# Altium integrated library ON Semi Signal Management Operational Amplifiers.IntLib: 435 symbols (part 3 of 12)
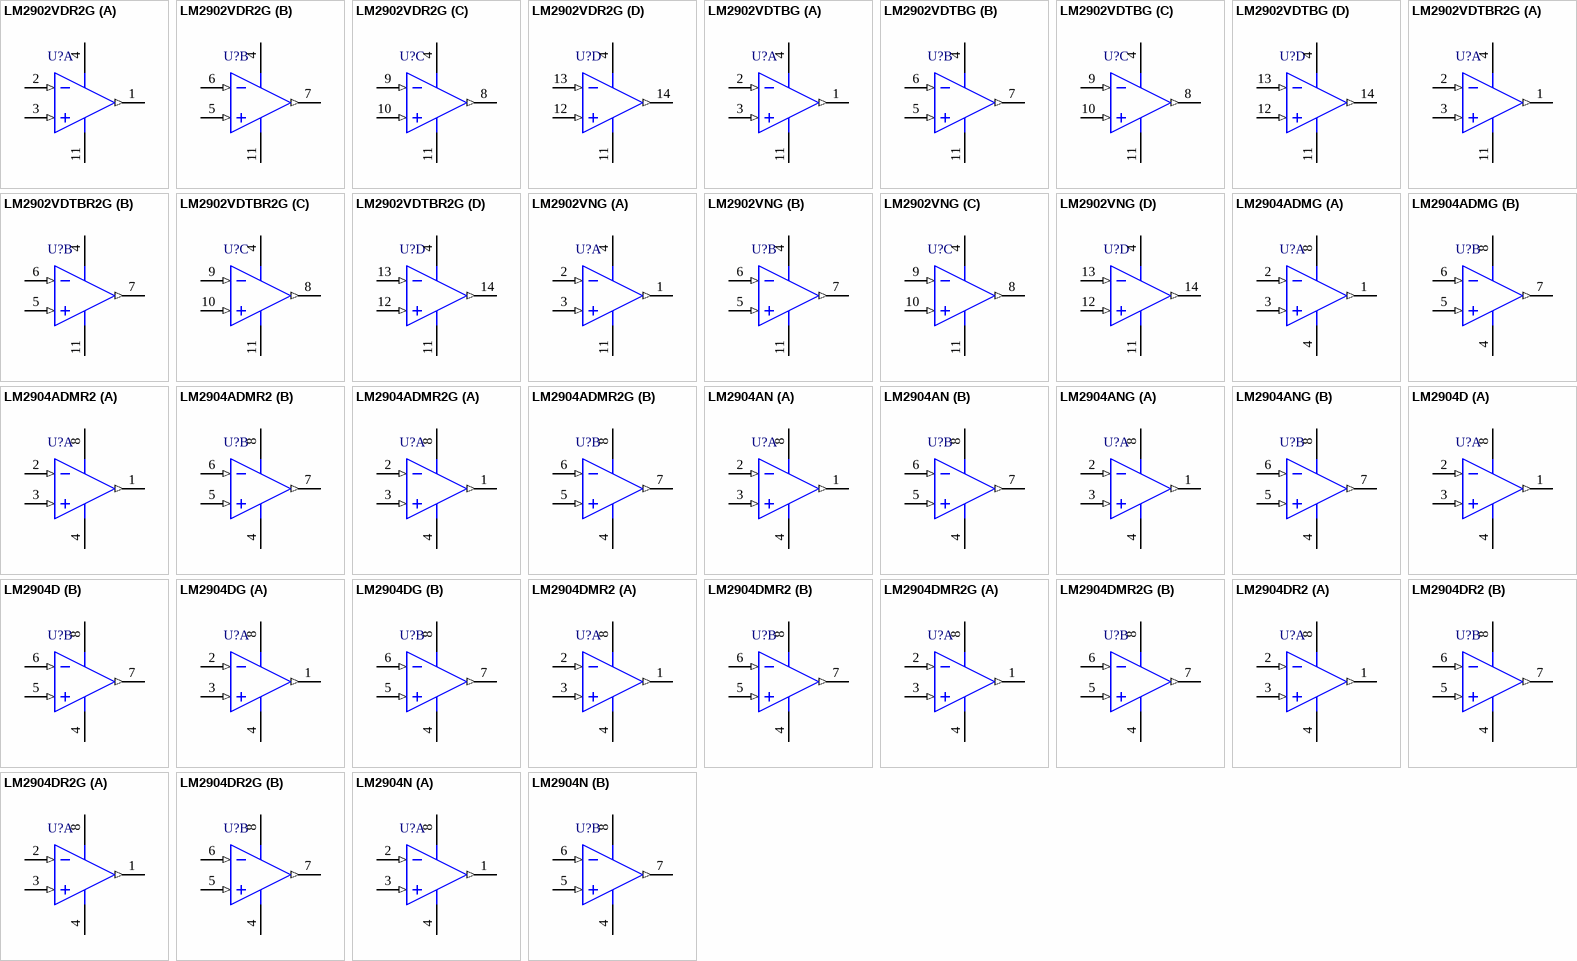
[diagram p27: symbols LM2902VDR2G to LM2904N]

## LM2904DR2G
designator U?
Single Supply Dual Operational Amplifier, 3 to 32 V, -40 to 105 degC, 8-Pin SOIC, Pb-Free, Tape and Reel; Manufacturer: On Semiconductor; PartNumber: LM2904DR2G; VCC Max (V): 32; VCC Min (V): 3; DatasheetVersion: Rev. 27; PackageVersion: Rev. AK, 02/2011; PackageReference: SOIC-8-751-07; PackageDescription: 8-Pin Small Outline Integrated Circuit, Body 4.9 x 3.9 mm, Pitch 1.27 mm; Supplier 1: Digi-Key; Supplier Part Number 1: LM2904DR2GOSTR-ND; Supplier 2: Digi-Key; Supplier Part Number 2: LM2904DR2GOSCT-ND; Supplier 3: Digi-Key; Supplier Part Number 3: LM2904DR2GOSDKR-ND; Supplier 4: Farnell; Supplier Part Number 4: 1278479; Supplier 5: Mouser; Supplier Part Number 5: 863-LM2904DR2G; Packing: Tape and Reel; RoHS: TRUE; Mounting Technology: Surface Mount; ComponentLink1Description: Manufacturer URL; ComponentLink1URL: http://www.onsemi.com/; ComponentLink2Description: Datasheet; ComponentLink2URL: http://www.onsemi.cn/pub_link/Collateral/LM358-D.PDF; ComponentLink3Description: Package Specification; ComponentLink3URL: http://www.onsemi.com/pub_link/Collateral/751-07.PDF
footprint ONSC-SOIC-8-751-07_V (SOIC, 8-Leads, Body 4.9x3.9mm, Pitch 1.27mm)
pins on every part: 4 VEE/GND (power), 8 VCC (power)
part A pins: 1 OUTA (out), 2 INA- (in), 3 INA+ (in)
part B pins: 5 INB+ (in), 6 INB- (in), 7 OUTB (out)

## LM2904N
designator U?
Single Supply Dual Operational Amplifier, 3 to 32 V, -40 to 105 degC, 8-Pin PDIP, Tube; Manufacturer: On Semiconductor; PartNumber: LM2904N; VCC Max (V): 32; VCC Min (V): 3; DatasheetVersion: Rev. 27; PackageVersion: Rev. M, 04/2010; PackageReference: PDIP-8-626-05; PackageDescription: 8-Pin Plastic Dual-In Line Package, Body 9.52 x 6.605 mm, Pitch 2.54 mm; Packing: Tube; RoHS: FALSE; Mounting Technology: Through Hole; ComponentLink1Description: Manufacturer URL; ComponentLink1URL: http://www.onsemi.com/; ComponentLink2Description: Datasheet; ComponentLink2URL: http://www.onsemi.cn/pub_link/Collateral/LM358-D.PDF; ComponentLink3Description: Package Specification; ComponentLink3URL: http://www.onsemi.com/pub_link/Collateral/LM211-D.PDF
footprint ONSC-PDIP-8-626-05_M (DIP, 8-Leads, Body 10x7.1mm, Pitch 2.54mm)
pins on every part: 4 VEE/GND (power), 8 VCC (power)
part A pins: 1 OUTA (out), 2 INA- (in), 3 INA+ (in)
part B pins: 5 INB+ (in), 6 INB- (in), 7 OUTB (out)

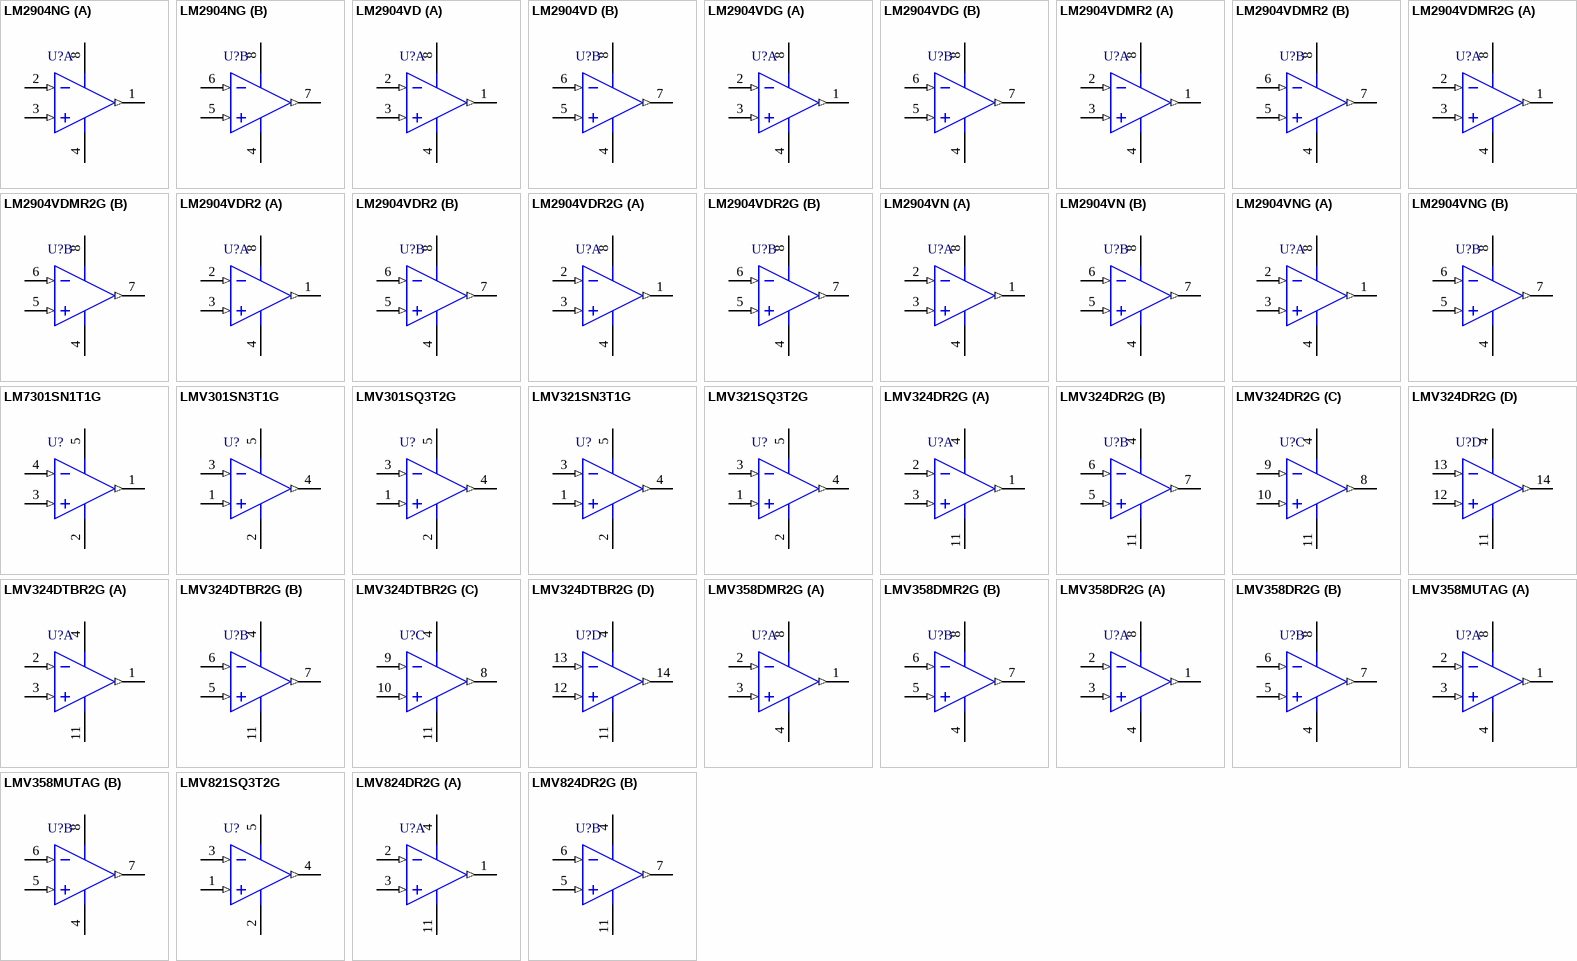
[diagram p5: symbols LM2904NG to LMV824DR2G]

## LM2904NG
designator U?
Single Supply Dual Operational Amplifier, 3 to 32 V, -40 to 105 degC, 8-Pin PDIP, Pb-Free, Tube; Manufacturer: On Semiconductor; PartNumber: LM2904NG; VCC Max (V): 32; VCC Min (V): 3; DatasheetVersion: Rev. 27; PackageVersion: Rev. M, 04/2010; PackageReference: PDIP-8-626-05; PackageDescription: 8-Pin Plastic Dual-In Line Package, Body 9.52 x 6.605 mm, Pitch 2.54 mm; Supplier 1: Digi-Key; Supplier Part Number 1: LM2904NGOS-ND; Supplier 2: Farnell; Supplier Part Number 2: 1211131; Supplier 3: Newark; Supplier Part Number 3: 45J0729; Supplier 4: Mouser; Supplier Part Number 4: 863-LM2904NG; Packing: Tube; RoHS: TRUE; Mounting Technology: Through Hole; ComponentLink1Description: Manufacturer URL; ComponentLink1URL: http://www.onsemi.com/; ComponentLink2Description: Datasheet; ComponentLink2URL: http://www.onsemi.cn/pub_link/Collateral/LM358-D.PDF; ComponentLink3Description: Package Specification; ComponentLink3URL: http://www.onsemi.com/pub_link/Collateral/LM211-D.PDF
footprint ONSC-PDIP-8-626-05_M (DIP, 8-Leads, Body 10x7.1mm, Pitch 2.54mm)
pins on every part: 4 VEE/GND (power), 8 VCC (power)
part A pins: 1 OUTA (out), 2 INA- (in), 3 INA+ (in)
part B pins: 5 INB+ (in), 6 INB- (in), 7 OUTB (out)

## LM2904VD
designator U?
Single Supply Dual Operational Amplifier, 3 to 32 V, -40 to 125 degC, 8-Pin SOIC, Tube; Manufacturer: On Semiconductor; PartNumber: LM2904VD; VCC Max (V): 32; VCC Min (V): 3; DatasheetVersion: Rev. 27; PackageVersion: Rev. AK, 02/2011; PackageReference: SOIC-8-751-07; PackageDescription: 8-Pin Small Outline Integrated Circuit, Body 4.9 x 3.9 mm, Pitch 1.27 mm; Packing: Tube; RoHS: FALSE; Mounting Technology: Surface Mount; ComponentLink1Description: Manufacturer URL; ComponentLink1URL: http://www.onsemi.com/; ComponentLink2Description: Datasheet; ComponentLink2URL: http://www.onsemi.cn/pub_link/Collateral/LM358-D.PDF; ComponentLink3Description: Package Specification; ComponentLink3URL: http://www.onsemi.com/pub_link/Collateral/751-07.PDF
footprint ONSC-SOIC-8-751-07_V (SOIC, 8-Leads, Body 4.9x3.9mm, Pitch 1.27mm)
pins on every part: 4 VEE/GND (power), 8 VCC (power)
part A pins: 1 OUTA (out), 2 INA- (in), 3 INA+ (in)
part B pins: 5 INB+ (in), 6 INB- (in), 7 OUTB (out)

## LM2904VDG
designator U?
Single Supply Dual Operational Amplifier, 3 to 32 V, -40 to 125 degC, 8-Pin SOIC, Pb-Free, Tube; Manufacturer: On Semiconductor; PartNumber: LM2904VDG; VCC Max (V): 32; VCC Min (V): 3; DatasheetVersion: Rev. 27; PackageVersion: Rev. AK, 02/2011; PackageReference: SOIC-8-751-07; PackageDescription: 8-Pin Small Outline Integrated Circuit, Body 4.9 x 3.9 mm, Pitch 1.27 mm; Supplier 1: Digi-Key; Supplier Part Number 1: LM2904VDGOS-ND; Supplier 2: Farnell; Supplier Part Number 2: 2072393RL; Supplier 3: Farnell; Supplier Part Number 3: 2072393; Supplier 4: Newark; Supplier Part Number 4: 98H0568; Supplier 5: Mouser; Supplier Part Number 5: 863-LM2904VDG; Packing: Tube; RoHS: TRUE; Mounting Technology: Surface Mount; ComponentLink1Description: Manufacturer URL; ComponentLink1URL: http://www.onsemi.com/; ComponentLink2Description: Datasheet; ComponentLink2URL: http://www.onsemi.cn/pub_link/Collateral/LM358-D.PDF; ComponentLink3Description: Package Specification; ComponentLink3URL: http://www.onsemi.com/pub_link/Collateral/751-07.PDF
footprint ONSC-SOIC-8-751-07_V (SOIC, 8-Leads, Body 4.9x3.9mm, Pitch 1.27mm)
pins on every part: 4 VEE/GND (power), 8 VCC (power)
part A pins: 1 OUTA (out), 2 INA- (in), 3 INA+ (in)
part B pins: 5 INB+ (in), 6 INB- (in), 7 OUTB (out)

## LM2904VDMR2
designator U?
Single Supply Dual Operational Amplifier, 3 to 32 V, -40 to 125 degC, 8-Pin MICRO, Tape and Reel; Manufacturer: On Semiconductor; PartNumber: LM2904VDMR2; VCC Max (V): 32; VCC Min (V): 3; DatasheetVersion: Rev. 27; PackageVersion: Rev. H; PackageReference: MICRO-8-846A-02_H; PackageDescription: 8-Pin Small Outline Package, Body 3 x 3 mm, Pitch 0.65 mm; Supplier 1: Digi-Key; Supplier Part Number 1: LM2904VDMR2OS-ND; Packing: Tape and Reel; RoHS: FALSE; Mounting Technology: Surface Mount; ComponentLink1Description: Manufacturer URL; ComponentLink1URL: http://www.onsemi.com/; ComponentLink2Description: Datasheet; ComponentLink2URL: http://www.onsemi.cn/pub_link/Collateral/LM358-D.PDF; ComponentLink3Description: Package Specification; ComponentLink3URL: http://www.onsemi.com/pub_link/Collateral/NLSV2T244-D.PDF
footprint ONSC-MICRO-8-846A-02_H_V (SOIC, 8-Leads, Body 3.1x3.1mm, Pitch 0.65mm)
pins on every part: 4 VEE/GND (power), 8 VCC (power)
part A pins: 1 OUTA (out), 2 INA- (in), 3 INA+ (in)
part B pins: 5 INB+ (in), 6 INB- (in), 7 OUTB (out)

## LM2904VDMR2G
designator U?
Single Supply Dual Operational Amplifier, 3 to 32 V, -40 to 125 degC, 8-Pin MICRO, Pb-Free, Tape and Reel; Manufacturer: On Semiconductor; PartNumber: LM2904VDMR2G; VCC Max (V): 32; VCC Min (V): 3; DatasheetVersion: Rev. 27; PackageVersion: Rev. H; PackageReference: MICRO-8-846A-02_H; PackageDescription: 8-Pin Small Outline Package, Body 3 x 3 mm, Pitch 0.65 mm; Supplier 1: Digi-Key; Supplier Part Number 1: LM2904VDMR2GOSTR-ND; Supplier 2: Digi-Key; Supplier Part Number 2: LM2904VDMR2GOSCT-ND; Supplier 3: Mouser; Supplier Part Number 3: 863-LM2904VDMR2G; Packing: Tape and Reel; RoHS: TRUE; Mounting Technology: Surface Mount; ComponentLink1Description: Manufacturer URL; ComponentLink1URL: http://www.onsemi.com/; ComponentLink2Description: Datasheet; ComponentLink2URL: http://www.onsemi.cn/pub_link/Collateral/LM358-D.PDF; ComponentLink3Description: Package Specification; ComponentLink3URL: http://www.onsemi.com/pub_link/Collateral/NLSV2T244-D.PDF
footprint ONSC-MICRO-8-846A-02_H_V (SOIC, 8-Leads, Body 3.1x3.1mm, Pitch 0.65mm)
pins on every part: 4 VEE/GND (power), 8 VCC (power)
part A pins: 1 OUTA (out), 2 INA- (in), 3 INA+ (in)
part B pins: 5 INB+ (in), 6 INB- (in), 7 OUTB (out)

## LM2904VDR2
designator U?
Single Supply Dual Operational Amplifier, 3 to 32 V, -40 to 125 degC, 8-Pin SOIC, Tape and Reel; Manufacturer: On Semiconductor; PartNumber: LM2904VDR2; VCC Max (V): 32; VCC Min (V): 3; DatasheetVersion: Rev. 27; PackageVersion: Rev. AK, 02/2011; PackageReference: SOIC-8-751-07; PackageDescription: 8-Pin Small Outline Integrated Circuit, Body 4.9 x 3.9 mm, Pitch 1.27 mm; Packing: Tape and Reel; RoHS: FALSE; Mounting Technology: Surface Mount; ComponentLink1Description: Manufacturer URL; ComponentLink1URL: http://www.onsemi.com/; ComponentLink2Description: Datasheet; ComponentLink2URL: http://www.onsemi.cn/pub_link/Collateral/LM358-D.PDF; ComponentLink3Description: Package Specification; ComponentLink3URL: http://www.onsemi.com/pub_link/Collateral/751-07.PDF
footprint ONSC-SOIC-8-751-07_V (SOIC, 8-Leads, Body 4.9x3.9mm, Pitch 1.27mm)
pins on every part: 4 VEE/GND (power), 8 VCC (power)
part A pins: 1 OUTA (out), 2 INA- (in), 3 INA+ (in)
part B pins: 5 INB+ (in), 6 INB- (in), 7 OUTB (out)

## LM2904VDR2G
designator U?
Single Supply Dual Operational Amplifier, 3 to 32 V, -40 to 125 degC, 8-Pin SOIC, Pb-Free, Tape and Reel; Manufacturer: On Semiconductor; PartNumber: LM2904VDR2G; VCC Max (V): 32; VCC Min (V): 3; DatasheetVersion: Rev. 27; PackageVersion: Rev. AK, 02/2011; PackageReference: SOIC-8-751-07; PackageDescription: 8-Pin Small Outline Integrated Circuit, Body 4.9 x 3.9 mm, Pitch 1.27 mm; Supplier 1: Digi-Key; Supplier Part Number 1: LM2904VDR2GOSTR-ND; Supplier 2: Digi-Key; Supplier Part Number 2: LM2904VDR2GOSCT-ND; Supplier 3: Digi-Key; Supplier Part Number 3: LM2904VDR2GOSDKR-ND; Supplier 4: Mouser; Supplier Part Number 4: 863-LM2904VDR2G; Packing: Tape and Reel; RoHS: TRUE; Mounting Technology: Surface Mount; ComponentLink1Description: Manufacturer URL; ComponentLink1URL: http://www.onsemi.com/; ComponentLink2Description: Datasheet; ComponentLink2URL: http://www.onsemi.cn/pub_link/Collateral/LM358-D.PDF; ComponentLink3Description: Package Specification; ComponentLink3URL: http://www.onsemi.com/pub_link/Collateral/751-07.PDF
footprint ONSC-SOIC-8-751-07_V (SOIC, 8-Leads, Body 4.9x3.9mm, Pitch 1.27mm)
pins on every part: 4 VEE/GND (power), 8 VCC (power)
part A pins: 1 OUTA (out), 2 INA- (in), 3 INA+ (in)
part B pins: 5 INB+ (in), 6 INB- (in), 7 OUTB (out)

## LM2904VN
designator U?
Single Supply Dual Operational Amplifier, 3 to 32 V, -40 to 125 degC, 8-Pin PDIP, Tube; Manufacturer: On Semiconductor; PartNumber: LM2904VN; VCC Max (V): 32; VCC Min (V): 3; DatasheetVersion: Rev. 27; PackageVersion: Rev. M, 04/2010; PackageReference: PDIP-8-626-05; PackageDescription: 8-Pin Plastic Dual-In Line Package, Body 9.52 x 6.605 mm, Pitch 2.54 mm; Packing: Tube; RoHS: FALSE; Mounting Technology: Through Hole; ComponentLink1Description: Manufacturer URL; ComponentLink1URL: http://www.onsemi.com/; ComponentLink2Description: Datasheet; ComponentLink2URL: http://www.onsemi.cn/pub_link/Collateral/LM358-D.PDF; ComponentLink3Description: Package Specification; ComponentLink3URL: http://www.onsemi.com/pub_link/Collateral/LM211-D.PDF
footprint ONSC-PDIP-8-626-05_M (DIP, 8-Leads, Body 10x7.1mm, Pitch 2.54mm)
pins on every part: 4 VEE/GND (power), 8 VCC (power)
part A pins: 1 OUTA (out), 2 INA- (in), 3 INA+ (in)
part B pins: 5 INB+ (in), 6 INB- (in), 7 OUTB (out)

## LM2904VNG
designator U?
Single Supply Dual Operational Amplifier, 3 to 32 V, -40 to 125 degC, 8-Pin PDIP, Pb-Free, Tube; Manufacturer: On Semiconductor; PartNumber: LM2904VNG; VCC Max (V): 32; VCC Min (V): 3; DatasheetVersion: Rev. 27; PackageVersion: Rev. M, 04/2010; PackageReference: PDIP-8-626-05; PackageDescription: 8-Pin Plastic Dual-In Line Package, Body 9.52 x 6.605 mm, Pitch 2.54 mm; Supplier 1: Digi-Key; Supplier Part Number 1: LM2904VNGOS-ND; Supplier 2: Mouser; Supplier Part Number 2: 863-LM2904VNG; Packing: Tube; RoHS: TRUE; Mounting Technology: Through Hole; ComponentLink1Description: Manufacturer URL; ComponentLink1URL: http://www.onsemi.com/; ComponentLink2Description: Datasheet; ComponentLink2URL: http://www.onsemi.cn/pub_link/Collateral/LM358-D.PDF; ComponentLink3Description: Package Specification; ComponentLink3URL: http://www.onsemi.com/pub_link/Collateral/LM211-D.PDF
footprint ONSC-PDIP-8-626-05_M (DIP, 8-Leads, Body 10x7.1mm, Pitch 2.54mm)
pins on every part: 4 VEE/GND (power), 8 VCC (power)
part A pins: 1 OUTA (out), 2 INA- (in), 3 INA+ (in)
part B pins: 5 INB+ (in), 6 INB- (in), 7 OUTB (out)

## LM7301SN1T1G
designator U?
Low Power, 4 MHz GBW, Rail-to-Rail Input-Output Operational Amplifier, 1.8 to 32 V, -40 to 85 degC, 5-Pin TSOP, Pb-Free, Tape and Reel; Manufacturer: On Semiconductor; PartNumber: LM7301SN1T1G; GBW Typ (MHz): 4; SR Typ (V/uS): 1.25; VCC Max (V): 32; VCC Min (V): 1.8; DatasheetVersion: Rev. 4; PackageVersion: Rev. K, 04/2013; PackageReference: TSOP-5-483-02; PackageDescription: 5-Pin Small Outline Package, Body 3 x 1.5 mm, Pitch 0.95 mm; Packing: Tape and Reel; RoHS: TRUE; Mounting Technology: Surface Mount; ComponentLink1Description: Manufacturer URL; ComponentLink1URL: http://www.onsemi.com/; ComponentLink2Description: Datasheet; ComponentLink2URL: http://www.onsemi.cn/pub_link/Collateral/LM7301-D.PDF; ComponentLink3Description: Package Specification; ComponentLink3URL: http://www.onsemi.com/pub_link/Collateral/483.PDF
footprint ONSC-TSOP-5-483-02_V (SOP, 5-Leads, Body 3x1.5mm, Pitch 0.95mm)
pins: 1 OUT (out), 2 VEE (power), 3 IN+ (in), 4 IN- (in), 5 VCC (power)

## LMV301SN3T1G
designator U?
Low Bias Current, Rail-to-Rail Operational Amplifier, 1.8 to 5 V, -40 to 85 degC, 5-Pin TSOP, Pb-Free, Tape and Reel; Manufacturer: On Semiconductor; PartNumber: LMV301SN3T1G; GBW Typ (MHz): 1; VCC Max (V): 5; VCC Min (V): 1.8; DatasheetVersion: Rev. 2; PackageVersion: Rev. K, 04/2013; PackageReference: TSOP-5-483-02; PackageDescription: 5-Pin Small Outline Package, Body 3 x 1.5 mm, Pitch 0.95 mm; Supplier 1: Newark; Supplier Part Number 1: 68X4006; Packing: Tape and Reel; RoHS: TRUE; SR Typ (V/uS): 1; Mounting Technology: Surface Mount; ComponentLink1Description: Manufacturer URL; ComponentLink1URL: http://www.onsemi.com/; ComponentLink2Description: Datasheet; ComponentLink2URL: http://www.onsemi.cn/pub_link/Collateral/LMV301-D.PDF; ComponentLink3Description: Package Specification; ComponentLink3URL: http://www.onsemi.com/pub_link/Collateral/483.PDF
footprint ONSC-TSOP-5-483-02_V (SOP, 5-Leads, Body 3x1.5mm, Pitch 0.95mm)
pins: 1 IN+ (in), 2 VEE (power), 3 IN- (in), 4 OUT (out), 5 VCC (power)

## LMV301SQ3T2G
designator U?
Low Bias Current, Rail-to-Rail Operational Amplifier, 1.8 to 5 V, -40 to 85 degC, 5-Pin SC70, Pb-Free, Tape and Reel; Manufacturer: On Semiconductor; PartNumber: LMV301SQ3T2G; GBW Typ (MHz): 1; VCC Max (V): 5; VCC Min (V): 1.8; DatasheetVersion: Rev. 2; PackageVersion: Rev. L, 01/2013; PackageReference: SC70-5-419A-02; PackageDescription: 5-Pin Small Outline Transistor, Body 2 x 1.25 mm, Pitch 0.65 mm; Supplier 1: Digi-Key; Supplier Part Number 1: LMV301SQ3T2G-ND; Supplier 2: Mouser; Supplier Part Number 2: 863-LMV301SQ3T2G; Packing: Tape and Reel; RoHS: TRUE; SR Typ (V/uS): 1; Mounting Technology: Surface Mount; ComponentLink1Description: Manufacturer URL; ComponentLink1URL: http://www.onsemi.com/; ComponentLink2Description: Datasheet; ComponentLink2URL: http://www.onsemi.cn/pub_link/Collateral/LMV301-D.PDF; ComponentLink3Description: Package Specification; ComponentLink3URL: http://www.onsemi.cn/pub_link/Collateral/419A-02.PDF
footprint ONSC-SC70-5-419A-02_V (SOT23, 5-Leads, Body 2x1.25mm, Pitch 0.65mm)
pins: 1 IN+ (in), 2 VEE (power), 3 IN- (in), 4 OUT (out), 5 VCC (power)

## LMV321SN3T1G
designator U?
Single Low-Voltage, Rail-to-Rail Operational Amplifier, 2.7 to 5.5 V, -40 to 85 degC, 5-Pin TSOP, Pb-Free, Tape and Reel; Manufacturer: On Semiconductor; PartNumber: LMV321SN3T1G; GBW Typ (MHz): 1; VCC Max (V): 5.5; VCC Min (V): 2.7; DatasheetVersion: Rev. 10; PackageVersion: Rev. K, 04/2013; PackageReference: TSOP-5-483-02; PackageDescription: 5-Pin Small Outline Package, Body 3 x 1.5 mm, Pitch 0.95 mm; Supplier 1: Digi-Key; Supplier Part Number 1: LMV321SN3T1GOSTR-ND; Supplier 2: Digi-Key; Supplier Part Number 2: LMV321SN3T1GOSCT-ND; Supplier 3: Digi-Key; Supplier Part Number 3: LMV321SN3T1GOSDKR-ND; Supplier 4: Newark; Supplier Part Number 4: 15R4263; Supplier 5: Mouser; Supplier Part Number 5: 863-LMV321SN3T1G; Packing: Tape and Reel; RoHS: TRUE; SR Typ (V/uS): 1; Mounting Technology: Surface Mount; ComponentLink1Description: Manufacturer URL; ComponentLink1URL: http://www.onsemi.com/; ComponentLink2Description: Datasheet; ComponentLink2URL: http://www.onsemi.cn/pub_link/Collateral/LMV321-LMV358-LMV324-D.PDF; ComponentLink3Description: Package Specification; ComponentLink3URL: http://www.onsemi.com/pub_link/Collateral/483.PDF
footprint ONSC-TSOP-5-483-02_V (SOP, 5-Leads, Body 3x1.5mm, Pitch 0.95mm)
pins: 1 IN+ (in), 2 V- (power), 3 IN- (in), 4 OUT (out), 5 V+ (power)

## LMV321SQ3T2G
designator U?
Single Low-Voltage, Rail-to-Rail Operational Amplifier, 2.7 to 5.5 V, -40 to 85 degC, 5-Pin SC70, Pb-Free, Tape and Reel; Manufacturer: On Semiconductor; PartNumber: LMV321SQ3T2G; GBW Typ (MHz): 1; VCC Max (V): 5.5; VCC Min (V): 2.7; DatasheetVersion: Rev. 10; PackageVersion: Rev. K, 07/2010; PackageReference: SC70-5-419A-02_K; PackageDescription: 5-Pin Small Outline Transistor, Body 2 x 1.25 mm, Pitch 0.65 mm; Supplier 1: Digi-Key; Supplier Part Number 1: LMV321SQ3T2GOSTR-ND; Supplier 2: Digi-Key; Supplier Part Number 2: LMV321SQ3T2GOSCT-ND; Supplier 3: Digi-Key; Supplier Part Number 3: LMV321SQ3T2GOSDKR-ND; Supplier 4: Newark; Supplier Part Number 4: 13P4651; Supplier 5: Mouser; Supplier Part Number 5: 863-LMV321SQ3T2G; Packing: Tape and Reel; RoHS: TRUE; SR Typ (V/uS): 1; Mounting Technology: Surface Mount; ComponentLink1Description: Manufacturer URL; ComponentLink1URL: http://www.onsemi.com/; ComponentLink2Description: Datasheet; ComponentLink2URL: http://www.onsemi.cn/pub_link/Collateral/LMV321-LMV358-LMV324-D.PDF; ComponentLink3Description: Package Specification; ComponentLink3URL: http://www.onsemi.cn/pub_link/Collateral/LMV821-D.PDF
footprint ONSC-SC70-5-419A-02_K_N (SOT23, 5-Leads, Body 2.2x1.35mm, Pitch 0.65mm, IPC Medium Density)
footprint ONSC-SC70-5-419A-02_K_L (SOT23, 5-Leads, Body 2.2x1.35mm, Pitch 0.65mm, IPC High Density)
footprint ONSC-SC70-5-419A-02_K_M (SOT23, 5-Leads, Body 2.2x1.35mm, Pitch 0.65mm, IPC Low Density)
pins: 1 IN+ (in), 2 V- (power), 3 IN- (in), 4 OUT (out), 5 V+ (power)

## LMV324DR2G
designator U?
Quad Low-Voltage, Rail-to-Rail Operational Amplifier, 2.7 to 5.5 V, -40 to 85 degC, 14-Pin SOIC, Pb-Free, Tape and Reel; Manufacturer: On Semiconductor; PartNumber: LMV324DR2G; GBW Typ (MHz): 1; VCC Max (V): 5.5; VCC Min (V): 2.7; DatasheetVersion: Rev. 10; PackageVersion: Rev. H; PackageReference: SOIC-14-751A-03_H; PackageDescription: 14-Pin Small Outline Integrated Circuit, Body 8.65 x 3.9 mm, Pitch 1.27 mm; Supplier 1: Digi-Key; Supplier Part Number 1: LMV324DR2GOSTR-ND; Supplier 2: Digi-Key; Supplier Part Number 2: LMV324DR2GOSCT-ND; Supplier 3: Digi-Key; Supplier Part Number 3: LMV324DR2GOSDKR-ND; Supplier 4: Newark; Supplier Part Number 4: 01P4986; Supplier 5: Mouser; Supplier Part Number 5: 863-LMV324DR2G; Packing: Tape and Reel; RoHS: TRUE; SR Typ (V/uS): 1; Mounting Technology: Surface Mount; ComponentLink1Description: Manufacturer URL; ComponentLink1URL: http://www.onsemi.com/; ComponentLink2Description: Datasheet; ComponentLink2URL: http://www.onsemi.cn/pub_link/Collateral/LMV321-LMV358-LMV324-D.PDF; ComponentLink3Description: Package Specification; ComponentLink3URL: http://www.onsemi.com/pub_link/Collateral/MC74AC74-D.PDF
footprint ONSC-SOIC-14-751A-03_H_V (SOIC, 14-Leads, Body 8.75x4mm, Pitch 1.27mm)
pins on every part: 4 V+ (power), 11 V- (power)
part A pins: 1 OUTA (out), 2 INA- (in), 3 INA+ (in)
part B pins: 5 INB+ (in), 6 INB- (in), 7 OUTB (out)
part C pins: 8 OUTC (out), 9 INC- (in), 10 INC+ (in)
part D pins: 12 IND+ (in), 13 IND- (in), 14 OUTD (out)

## LMV324DTBR2G
designator U?
Quad Low-Voltage, Rail-to-Rail Operational Amplifier, 2.7 to 5.5 V, -40 to 85 degC, 14-Pin TSSOP, Pb-Free, Tape and Reel; Manufacturer: On Semiconductor; PartNumber: LMV324DTBR2G; GBW Typ (MHz): 1; VCC Max (V): 5.5; VCC Min (V): 2.7; DatasheetVersion: Rev. 10; PackageVersion: Rev. B, 10/2006; PackageReference: TSSOP-14-948G-01; PackageDescription: 14-Pin Small Outline Package, Body 5 x 4.4 mm, Pitch 0.65 mm; Supplier 1: Digi-Key; Supplier Part Number 1: LMV324DTBR2G-ND; Supplier 2: Newark; Supplier Part Number 2: 01P4987; Supplier 3: Mouser; Supplier Part Number 3: 863-LMV324DTBR2G; Packing: Tape and Reel; RoHS: TRUE; SR Typ (V/uS): 1; Mounting Technology: Surface Mount; ComponentLink1Description: Manufacturer URL; ComponentLink1URL: http://www.onsemi.com/; ComponentLink2Description: Datasheet; ComponentLink2URL: http://www.onsemi.cn/pub_link/Collateral/LMV321-LMV358-LMV324-D.PDF; ComponentLink3Description: Package Specification; ComponentLink3URL: http://www.onsemi.com/pub_link/Collateral/948G-01.PDF
footprint ONSC-TSSOP-14-948G-01_V (SOP, 14-Leads, Body 5.1x4.5mm, Pitch 0.65mm)
pins on every part: 4 V+ (power), 11 V- (power)
part A pins: 1 OUTA (out), 2 INA- (in), 3 INA+ (in)
part B pins: 5 INB+ (in), 6 INB- (in), 7 OUTB (out)
part C pins: 8 OUTC (out), 9 INC- (in), 10 INC+ (in)
part D pins: 12 IND+ (in), 13 IND- (in), 14 OUTD (out)

## LMV358DMR2G
designator U?
Dual Low-Voltage, Rail-to-Rail Operational Amplifier, 2.7 to 5.5 V, -40 to 85 degC, 8-Pin MICRO, Pb-Free, Tape and Reel; Manufacturer: On Semiconductor; PartNumber: LMV358DMR2G; GBW Typ (MHz): 1; VCC Max (V): 5.5; VCC Min (V): 2.7; DatasheetVersion: Rev. 10; PackageVersion: Rev. H; PackageReference: MICRO-8-846A-02_H; PackageDescription: 8-Pin Small Outline Package, Body 3 x 3 mm, Pitch 0.65 mm; Supplier 1: Digi-Key; Supplier Part Number 1: LMV358DMR2G-ND; Supplier 2: Mouser; Supplier Part Number 2: 863-LMV358DMR2G; Packing: Tape and Reel; RoHS: TRUE; SR Typ (V/uS): 1; Mounting Technology: Surface Mount; ComponentLink1Description: Manufacturer URL; ComponentLink1URL: http://www.onsemi.com/; ComponentLink2Description: Datasheet; ComponentLink2URL: http://www.onsemi.cn/pub_link/Collateral/LMV321-LMV358-LMV324-D.PDF; ComponentLink3Description: Package Specification; ComponentLink3URL: http://www.onsemi.com/pub_link/Collateral/NLSV2T244-D.PDF
footprint ONSC-MICRO-8-846A-02_H_V (SOIC, 8-Leads, Body 3.1x3.1mm, Pitch 0.65mm)
pins on every part: 4 V- (power), 8 V+ (power)
part A pins: 1 OUTA (out), 2 INA- (in), 3 INA+ (in)
part B pins: 5 INB+ (in), 6 INB- (in), 7 OUTB (out)

## LMV358DR2G
designator U?
Dual Low-Voltage, Rail-to-Rail Operational Amplifier, 2.7 to 5.5 V, -40 to 85 degC, 8-Pin SOIC, Pb-Free, Tape and Reel; Manufacturer: On Semiconductor; PartNumber: LMV358DR2G; GBW Typ (MHz): 1; VCC Max (V): 5.5; VCC Min (V): 2.7; DatasheetVersion: Rev. 10; PackageVersion: Rev. AK, 02/2011; PackageReference: SOIC-8-751-07; PackageDescription: 8-Pin Small Outline Integrated Circuit, Body 4.9 x 3.9 mm, Pitch 1.27 mm; Supplier 1: Digi-Key; Supplier Part Number 1: LMV358DR2GOSTR-ND; Supplier 2: Digi-Key; Supplier Part Number 2: LMV358DR2GOSCT-ND; Supplier 3: Digi-Key; Supplier Part Number 3: LMV358DR2GOSDKR-ND; Supplier 4: Newark; Supplier Part Number 4: 13P4655; Supplier 5: Mouser; Supplier Part Number 5: 863-LMV358DR2G; Packing: Tape and Reel; RoHS: TRUE; SR Typ (V/uS): 1; Mounting Technology: Surface Mount; ComponentLink1Description: Manufacturer URL; ComponentLink1URL: http://www.onsemi.com/; ComponentLink2Description: Datasheet; ComponentLink2URL: http://www.onsemi.cn/pub_link/Collateral/LMV321-LMV358-LMV324-D.PDF; ComponentLink3Description: Package Specification; ComponentLink3URL: http://www.onsemi.com/pub_link/Collateral/751-07.PDF
footprint ONSC-SOIC-8-751-07_V (SOIC, 8-Leads, Body 4.9x3.9mm, Pitch 1.27mm)
pins on every part: 4 V- (power), 8 V+ (power)
part A pins: 1 OUTA (out), 2 INA- (in), 3 INA+ (in)
part B pins: 5 INB+ (in), 6 INB- (in), 7 OUTB (out)

## LMV358MUTAG
designator U?
Dual Low-Voltage, Rail-to-Rail Operational Amplifier, 2.7 to 5.5 V, -40 to 85 degC, 8-Pin UDFN, Pb-Free, Tape and Reel; Manufacturer: On Semiconductor; PartNumber: LMV358MUTAG; GBW Typ (MHz): 1; VCC Max (V): 5.5; VCC Min (V): 2.7; DatasheetVersion: Rev. 10; PackageVersion: Rev. O, 11/2006; PackageReference: UDFN-8-517AJ-01; PackageDescription: 8-Pin Small Outline No-Lead, Body 1.8 x 1.2 mm, Pitch 0.4 mm; Supplier 1: Digi-Key; Supplier Part Number 1: LMV358MUTAG-ND; Supplier 2: Mouser; Supplier Part Number 2: 863-LMV358MUTAG; Packing: Tape and Reel; RoHS: TRUE; SR Typ (V/uS): 1; Mounting Technology: Surface Mount; ComponentLink1Description: Manufacturer URL; ComponentLink1URL: http://www.onsemi.com/; ComponentLink2Description: Datasheet; ComponentLink2URL: http://www.onsemi.cn/pub_link/Collateral/LMV321-LMV358-LMV324-D.PDF; ComponentLink3Description: Package Specification; ComponentLink3URL: http://www.onsemi.cn/pub_link/Collateral/517AJ.PDF.1
footprint ONSC-UDFN-8-517AJ-01_V (SON, 8-Leads, Body 1.8x1.2mm, Pitch 0.4mm)
pins on every part: 4 V- (power), 8 V+ (power)
part A pins: 1 OUTA (out), 2 INA- (in), 3 INA+ (in)
part B pins: 5 INB+ (in), 6 INB- (in), 7 OUTB (out)

## LMV821SQ3T2G
designator U?
Single Low Voltage, Rail-to-Rail Operational Amplifier, 2.7 to 5.5 V, -40 to 85 degC, 5-Pin SC70, Pb-Free, Tape and Reel; Manufacturer: On Semiconductor; PartNumber: LMV821SQ3T2G; VCC Max (V): 5.5; VCC Min (V): 2.7; DatasheetVersion: Rev. 2; PackageVersion: Rev. K, 07/2010; PackageReference: SC70-5-419A-02_K; PackageDescription: 5-Pin Small Outline Transistor, Body 2 x 1.25 mm, Pitch 0.65 mm; Supplier 1: Digi-Key; Supplier Part Number 1: LMV821SQ3T2GOSTR-ND; Supplier 2: Digi-Key; Supplier Part Number 2: LMV821SQ3T2GOSCT-ND; Supplier 3: Digi-Key; Supplier Part Number 3: LMV821SQ3T2GOSDKR-ND; Supplier 4: Farnell; Supplier Part Number 4: 1924927; Supplier 5: Mouser; Supplier Part Number 5: 863-LMV821SQ3T2G; Packing: Tape and Reel; RoHS: TRUE; Mounting Technology: Surface Mount; ComponentLink1Description: Manufacturer URL; ComponentLink1URL: http://www.onsemi.com/; ComponentLink2Description: Datasheet; ComponentLink2URL: http://www.onsemi.cn/pub_link/Collateral/LMV821-D.PDF; ComponentLink3Description: Package Specification; ComponentLink3URL: http://www.onsemi.cn/pub_link/Collateral/LMV821-D.PDF
footprint ONSC-SC70-5-419A-02_K_N (SOT23, 5-Leads, Body 2.2x1.35mm, Pitch 0.65mm, IPC Medium Density)
footprint ONSC-SC70-5-419A-02_K_L (SOT23, 5-Leads, Body 2.2x1.35mm, Pitch 0.65mm, IPC High Density)
footprint ONSC-SC70-5-419A-02_K_M (SOT23, 5-Leads, Body 2.2x1.35mm, Pitch 0.65mm, IPC Low Density)
pins: 1 IN+ (in), 2 V- (power), 3 IN- (in), 4 OUT (out), 5 V+ (power)

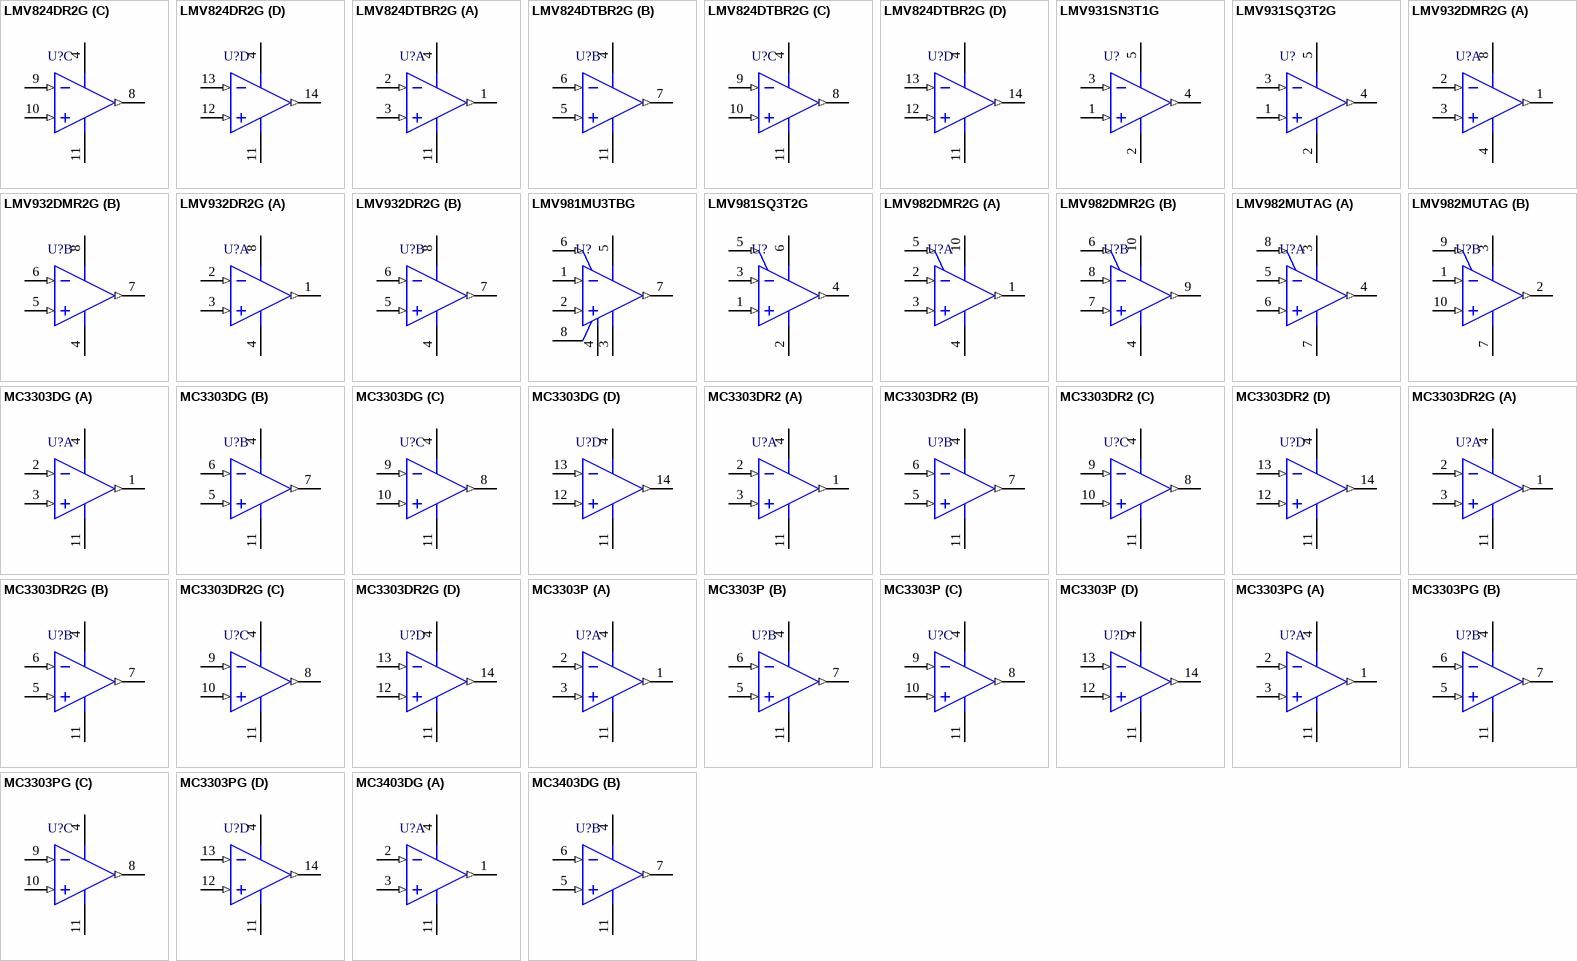
[diagram p6: symbols LMV824DR2G to MC3403DG]

## LMV824DR2G
designator U?
Quad Low Voltage, Rail-to-Rail Operational Amplifier, 2.7 to 5.5 V, -40 to 85 degC, 14-Pin SOIC, Pb-Free, Tape and Reel; Manufacturer: On Semiconductor; PartNumber: LMV824DR2G; VCC Max (V): 5.5; VCC Min (V): 2.7; DatasheetVersion: Rev. 2; PackageVersion: Rev. K, 05/2011; PackageReference: SOIC-14-751A-03; PackageDescription: 14-Pin Small Outline Integrated Circuit, Body 8.65 x 3.9 mm, Pitch 1.27 mm; Supplier 1: Digi-Key; Supplier Part Number 1: LMV824DR2G-ND; Supplier 2: Mouser; Supplier Part Number 2: 863-LMV824DR2G; Packing: Tape and Reel; RoHS: TRUE; Mounting Technology: Surface Mount; ComponentLink1Description: Manufacturer URL; ComponentLink1URL: http://www.onsemi.com/; ComponentLink2Description: Datasheet; ComponentLink2URL: http://www.onsemi.cn/pub_link/Collateral/LMV821-D.PDF; ComponentLink3Description: Package Specification; ComponentLink3URL: http://www.onsemi.com/pub_link/Collateral/751A-03.PDF
footprint ONSC-SOIC-14-751A-03_V (SOIC, 14-Leads, Body 8.75x4mm, Pitch 1.27mm)
pins on every part: 4 V+ (power), 11 V- (power)
part A pins: 1 OUTA (out), 2 INA- (in), 3 INA+ (in)
part B pins: 5 INB+ (in), 6 INB- (in), 7 OUTB (out)
part C pins: 8 OUTC (out), 9 INC- (in), 10 INC+ (in)
part D pins: 12 IND+ (in), 13 IND- (in), 14 OUTD (out)

## LMV824DTBR2G
designator U?
Quad Low Voltage, Rail-to-Rail Operational Amplifier, 2.7 to 5.5 V, -40 to 85 degC, 14-Pin TSSOP, Pb-Free, Tape and Reel; Manufacturer: On Semiconductor; PartNumber: LMV824DTBR2G; VCC Max (V): 5.5; VCC Min (V): 2.7; DatasheetVersion: Rev. 2; PackageVersion: Rev. B, 10/2006; PackageReference: TSSOP-14-948G-01; PackageDescription: 14-Pin Small Outline Package, Body 5 x 4.4 mm, Pitch 0.65 mm; Supplier 1: Digi-Key; Supplier Part Number 1: LMV824DTBR2G-ND; Supplier 2: Mouser; Supplier Part Number 2: 863-LMV824DTBR2G; Packing: Tape and Reel; RoHS: TRUE; Mounting Technology: Surface Mount; ComponentLink1Description: Manufacturer URL; ComponentLink1URL: http://www.onsemi.com/; ComponentLink2Description: Datasheet; ComponentLink2URL: http://www.onsemi.cn/pub_link/Collateral/LMV821-D.PDF; ComponentLink3Description: Package Specification; ComponentLink3URL: http://www.onsemi.com/pub_link/Collateral/948G-01.PDF
footprint ONSC-TSSOP-14-948G-01_V (SOP, 14-Leads, Body 5.1x4.5mm, Pitch 0.65mm)
pins on every part: 4 V+ (power), 11 V- (power)
part A pins: 1 OUTA (out), 2 INA- (in), 3 INA+ (in)
part B pins: 5 INB+ (in), 6 INB- (in), 7 OUTB (out)
part C pins: 8 OUTC (out), 9 INC- (in), 10 INC+ (in)
part D pins: 12 IND+ (in), 13 IND- (in), 14 OUTD (out)

## LMV931SN3T1G
designator U?
Single Low Voltage, Rail-to-Rail Input and Output, Operational Amplifier, 1.8 to 5.5 V, -40 to 85 degC, 5-Pin TSOP, Pb-Free, Tape and Reel; Manufacturer: On Semiconductor; PartNumber: LMV931SN3T1G; VCC Max (V): 5.5; VCC Min (V): 1.8; DatasheetVersion: Rev. 9; PackageVersion: Rev. K, 04/2013; PackageReference: TSOP-5-483-02; PackageDescription: 5-Pin Small Outline Package, Body 3 x 1.5 mm, Pitch 0.95 mm; Supplier 1: Digi-Key; Supplier Part Number 1: LMV931SN3T1G-ND; Supplier 2: Mouser; Supplier Part Number 2: 863-LMV931SN3T1G; Packing: Tape and Reel; RoHS: TRUE; Mounting Technology: Surface Mount; ComponentLink1Description: Manufacturer URL; ComponentLink1URL: http://www.onsemi.com/; ComponentLink2Description: Datasheet; ComponentLink2URL: http://www.onsemi.cn/pub_link/Collateral/LMV931-D.PDF; ComponentLink3Description: Package Specification; ComponentLink3URL: http://www.onsemi.com/pub_link/Collateral/483.PDF
footprint ONSC-TSOP-5-483-02_V (SOP, 5-Leads, Body 3x1.5mm, Pitch 0.95mm)
pins: 1 IN+ (in), 2 VEE (power), 3 IN- (in), 4 OUT (out), 5 VCC (power)

## LMV931SQ3T2G
designator U?
Single Low Voltage, Rail-to-Rail Input and Output, Operational Amplifier, 1.8 to 5.5 V, -40 to 85 degC, 5-Pin SC70, Pb-Free, Tape and Reel; Manufacturer: On Semiconductor; PartNumber: LMV931SQ3T2G; VCC Max (V): 5.5; VCC Min (V): 1.8; DatasheetVersion: Rev. 9; PackageVersion: Rev. K, 07/2010; PackageReference: SC70-5-419A-02_K; PackageDescription: 5-Pin Small Outline Transistor, Body 2 x 1.25 mm, Pitch 0.65 mm; Supplier 1: Digi-Key; Supplier Part Number 1: LMV931SQ3T2GOSTR-ND; Supplier 2: Digi-Key; Supplier Part Number 2: LMV931SQ3T2GOSCT-ND; Supplier 3: Digi-Key; Supplier Part Number 3: LMV931SQ3T2GOSDKR-ND; Supplier 4: Mouser; Supplier Part Number 4: 863-LMV931SQ3T2G; Packing: Tape and Reel; RoHS: TRUE; Mounting Technology: Surface Mount; ComponentLink1Description: Manufacturer URL; ComponentLink1URL: http://www.onsemi.com/; ComponentLink2Description: Datasheet; ComponentLink2URL: http://www.onsemi.cn/pub_link/Collateral/LMV931-D.PDF; ComponentLink3Description: Package Specification; ComponentLink3URL: http://www.onsemi.cn/pub_link/Collateral/LMV821-D.PDF
footprint ONSC-SC70-5-419A-02_K_N (SOT23, 5-Leads, Body 2.2x1.35mm, Pitch 0.65mm, IPC Medium Density)
footprint ONSC-SC70-5-419A-02_K_L (SOT23, 5-Leads, Body 2.2x1.35mm, Pitch 0.65mm, IPC High Density)
footprint ONSC-SC70-5-419A-02_K_M (SOT23, 5-Leads, Body 2.2x1.35mm, Pitch 0.65mm, IPC Low Density)
pins: 1 IN+ (in), 2 VEE (power), 3 IN- (in), 4 OUT (out), 5 VCC (power)

## LMV932DMR2G
designator U?
Dual Low Voltage, Rail-to-Rail Input and Output, Operational Amplifier, 1.8 to 5.5 V, -40 to 85 degC, 8-Pin MICRO, Pb-Free, Tape and Reel; Manufacturer: On Semiconductor; PartNumber: LMV932DMR2G; VCC Max (V): 5.5; VCC Min (V): 1.8; DatasheetVersion: Rev. 9; PackageVersion: Rev. H; PackageReference: MICRO-8-846A-02_H; PackageDescription: 8-Pin Small Outline Package, Body 3 x 3 mm, Pitch 0.65 mm; Supplier 1: Digi-Key; Supplier Part Number 1: LMV932DMR2GOSTR-ND; Supplier 2: Digi-Key; Supplier Part Number 2: LMV932DMR2GOSCT-ND; Supplier 3: Digi-Key; Supplier Part Number 3: LMV932DMR2GOSOSDKR-ND; Supplier 4: Newark; Supplier Part Number 4: 72W2020; Supplier 5: Mouser; Supplier Part Number 5: 863-LMV932DMR2G; Packing: Tape and Reel; RoHS: TRUE; Mounting Technology: Surface Mount; ComponentLink1Description: Manufacturer URL; ComponentLink1URL: http://www.onsemi.com/; ComponentLink2Description: Datasheet; ComponentLink2URL: http://www.onsemi.cn/pub_link/Collateral/LMV931-D.PDF; ComponentLink3Description: Package Specification; ComponentLink3URL: http://www.onsemi.com/pub_link/Collateral/NLSV2T244-D.PDF
footprint ONSC-MICRO-8-846A-02_H_V (SOIC, 8-Leads, Body 3.1x3.1mm, Pitch 0.65mm)
pins on every part: 4 VEE (power), 8 VCC (power)
part A pins: 1 OUTA (out), 2 INA- (in), 3 INA+ (in)
part B pins: 5 INB+ (in), 6 INB- (in), 7 OUTB (out)

## LMV932DR2G
designator U?
Dual Low Voltage, Rail-to-Rail Input and Output, Operational Amplifier, 1.8 to 5.5 V, -40 to 85 degC, 8-Pin SOIC, Pb-Free, Tape and Reel; Manufacturer: On Semiconductor; PartNumber: LMV932DR2G; VCC Max (V): 5.5; VCC Min (V): 1.8; DatasheetVersion: Rev. 9; PackageVersion: Rev. AK, 02/2011; PackageReference: SOIC-8-751-07; PackageDescription: 8-Pin Small Outline Integrated Circuit, Body 4.9 x 3.9 mm, Pitch 1.27 mm; Supplier 1: Digi-Key; Supplier Part Number 1: LMV932DR2GOSTR-ND; Supplier 2: Digi-Key; Supplier Part Number 2: LMV932DR2GOSCT-ND; Supplier 3: Digi-Key; Supplier Part Number 3: LMV932DR2GOSDKR-ND; Supplier 4: Newark; Supplier Part Number 4: 45W8403; Supplier 5: Mouser; Supplier Part Number 5: 863-LMV932DR2G; Packing: Tape and Reel; RoHS: TRUE; Mounting Technology: Surface Mount; ComponentLink1Description: Manufacturer URL; ComponentLink1URL: http://www.onsemi.com/; ComponentLink2Description: Datasheet; ComponentLink2URL: http://www.onsemi.cn/pub_link/Collateral/LMV931-D.PDF; ComponentLink3Description: Package Specification; ComponentLink3URL: http://www.onsemi.com/pub_link/Collateral/751-07.PDF
footprint ONSC-SOIC-8-751-07_V (SOIC, 8-Leads, Body 4.9x3.9mm, Pitch 1.27mm)
pins on every part: 4 VEE (power), 8 VCC (power)
part A pins: 1 OUTA (out), 2 INA- (in), 3 INA+ (in)
part B pins: 5 INB+ (in), 6 INB- (in), 7 OUTB (out)

## LMV981MU3TBG
designator U?
Single Low Voltage, Rail-to-Rail Input and Output, Operational Amplifier with Shutdown, 1.8 to 5 V, -40 to 85 degC, 8-Pin ULLGA, Pb-Free, Tape and Reel; Manufacturer: On Semiconductor; PartNumber: LMV981MU3TBG; VCC Max (V): 5; VCC Min (V): 1.8; DatasheetVersion: Rev. 11; PackageVersion: Rev. A, 04/2011; PackageReference: ULLGA-8-613AG-01; PackageDescription: 8-Pin Land Grid Array, Body 1.5 x 1.5 mm, Pitch 0.5 mm; Supplier 1: Digi-Key; Supplier Part Number 1: LMV981MU3TBGOSTR-ND; Supplier 2: Digi-Key; Supplier Part Number 2: LMV981MU3TBGOSCT-ND; Supplier 3: Digi-Key; Supplier Part Number 3: LMV981MU3TBGOSDKR-ND; Supplier 4: Mouser; Supplier Part Number 4: 863-LMV981MU3TBG; Packing: Tape and Reel; RoHS: TRUE; Mounting Technology: Surface Mount; ComponentLink1Description: Manufacturer URL; ComponentLink1URL: http://www.onsemi.com/; ComponentLink2Description: Datasheet; ComponentLink2URL: http://www.onsemi.cn/pub_link/Collateral/LMV981-D.PDF; ComponentLink3Description: Package Specification; ComponentLink3URL: http://www.onsemi.cn/pub_link/Collateral/613AG.PDF
footprint ONSC-ULLGA-8-613AG-01_V (ULLGA, 8-Leads, Body 1.5x1.5mm, Pitch 0.5mm)
pins: 1 IN- (in), 2 IN+ (in), 3 VEE (power), 4 VEE (power), 5 VCC (power), 6 ~{SHDN} (in), 7 OUT (out), 8 NC

## LMV981SQ3T2G
designator U?
Single Low Voltage, Rail-to-Rail Input and Output, Operational Amplifier with Shutdown, 1.8 to 5 V, -40 to 85 degC, 6-Pin SC70, Pb-Free, Tape and Reel; Manufacturer: On Semiconductor; PartNumber: LMV981SQ3T2G; VCC Max (V): 5; VCC Min (V): 1.8; DatasheetVersion: Rev. 11; PackageVersion: Rev. W, 01/2006; PackageReference: SC70-6-419B-02_W; PackageDescription: 6-Pin Small Outline Transistor, Body 2 x 1.25 mm, Pitch 0.65 mm; Supplier 1: Mouser; Supplier Part Number 1: N/A; Packing: Tape and Reel; RoHS: TRUE; Mounting Technology: Surface Mount; ComponentLink1Description: Manufacturer URL; ComponentLink1URL: http://www.onsemi.com/; ComponentLink2Description: Datasheet; ComponentLink2URL: http://www.onsemi.cn/pub_link/Collateral/LMV981-D.PDF; ComponentLink3Description: Package Specification; ComponentLink3URL: http://www.onsemi.com/pub_link/Collateral/SMF05C-D.PDF
footprint ONSC-SC70-6-419B-02_W_V (SOT23, 6-Leads, Body 2.2x1.35mm, Pitch 0.65mm)
pins: 1 IN+ (in), 2 VEE (power), 3 IN- (in), 4 OUT (out), 5 ~{SHDN} (in), 6 VCC (power)

## LMV982DMR2G
designator U?
Dual Low Voltage, Rail-to-Rail Input and Output, Operational Amplifier with Shutdown, 1.8 to 5 V, -40 to 85 degC, 10-Pin MICRO, Pb-Free, Tape and Reel; Manufacturer: On Semiconductor; PartNumber: LMV982DMR2G; VCC Max (V): 5; VCC Min (V): 1.8; DatasheetVersion: Rev. 11; PackageVersion: Rev. D, 12/2004; PackageReference: MICRO-10-846B-03; PackageDescription: 10-Pin Micro Small Outline Package, Body 3 x 3 mm, Pitch 0.5 mm; Packing: Tape and Reel; RoHS: TRUE; Mounting Technology: Surface Mount; ComponentLink1Description: Manufacturer URL; ComponentLink1URL: http://www.onsemi.com/; ComponentLink2Description: Datasheet; ComponentLink2URL: http://www.onsemi.cn/pub_link/Collateral/LMV981-D.PDF; ComponentLink3Description: Package Specification; ComponentLink3URL: http://www.onsemi.cn/pub_link/Collateral/846B-02.PDF
footprint ONSC-MICRO-10-846B-03_V (SOP, 10-Leads, Body 3.1x3.1mm, Pitch 0.5mm)
pins on every part: 4 VEE (power), 10 VCC (power)
part A pins: 1 OUTA (out), 2 INA- (in), 3 INA+ (in), 5 ~{SHDN} A (in)
part B pins: 6 ~{SHDN} B (in), 7 INB+ (in), 8 INB- (in), 9 OUTB (out)

## LMV982MUTAG
designator U?
Dual Low Voltage, Rail-to-Rail Input and Output, Operational Amplifier with Shutdown, 1.8 to 5 V, -40 to 85 degC, 10-Pin UQFN, Pb-Free, Tape and Reel; Manufacturer: On Semiconductor; PartNumber: LMV982MUTAG; VCC Max (V): 5; VCC Min (V): 1.8; DatasheetVersion: Rev. 11; PackageVersion: Rev. A, 08/2007; PackageReference: UQFN-10-488AT-01; PackageDescription: 10-Pin Quad Flat No-Lead, Body 1.4 x 1.8 mm, Pitch 0.4 mm; Supplier 1: Digi-Key; Supplier Part Number 1: LMV982MUTAGOSTR-ND; Supplier 2: Digi-Key; Supplier Part Number 2: LMV982MUTAGOSCT-ND; Supplier 3: Digi-Key; Supplier Part Number 3: LMV982MUTAGOSDKR-ND; Supplier 4: Mouser; Supplier Part Number 4: 863-LMV982MUTAG; Packing: Tape and Reel; RoHS: TRUE; Mounting Technology: Surface Mount; ComponentLink1Description: Manufacturer URL; ComponentLink1URL: http://www.onsemi.com/; ComponentLink2Description: Datasheet; ComponentLink2URL: http://www.onsemi.cn/pub_link/Collateral/LMV981-D.PDF; ComponentLink3Description: Package Specification; ComponentLink3URL: http://www.onsemi.cn/pub_link/Collateral/488AT.PDF
footprint ONSC-UQFN-10-488AT-01_V (QFN, 10-Leads, Body 1.8x1.4mm, Pitch 0.4mm)
pins on every part: 3 VCC (power), 7 VEE (power)
part A pins: 4 OUTA (out), 5 INA- (in), 6 INA+ (in), 8 ~{SHDN} A (in)
part B pins: 1 INB- (in), 2 OUTB (out), 9 ~{SHDN} B (in), 10 INB+ (in)

## MC3303DG
designator U?
Single Supply Quad Operational Amplifier, 3 to 36 V, -40 to 85 degC, 14-Pin SOIC, Pb-Free, Tube; Manufacturer: On Semiconductor; PartNumber: MC3303DG; GBW Typ (MHz): 1; SR Typ (V/uS): 0.6; VCC Max (V): 36; VCC Min (V): 3; DatasheetVersion: Rev. 11; PackageVersion: Rev. H; PackageReference: SOIC-14-751A-03_H; PackageDescription: 14-Pin Small Outline Integrated Circuit, Body 8.65 x 3.9 mm, Pitch 1.27 mm; Supplier 1: Digi-Key; Supplier Part Number 1: MC3303DGOS-ND; Supplier 2: Farnell; Supplier Part Number 2: 1211113; Supplier 3: Newark; Supplier Part Number 3: 26K3985; Supplier 4: Mouser; Supplier Part Number 4: 863-MC3303DG; Packing: Tube; RoHS: TRUE; Mounting Technology: Surface Mount; ComponentLink1Description: Manufacturer URL; ComponentLink1URL: http://www.onsemi.com/; ComponentLink2Description: Datasheet; ComponentLink2URL: http://www.onsemi.cn/pub_link/Collateral/MC3403-D.PDF; ComponentLink3Description: Package Specification; ComponentLink3URL: http://www.onsemi.com/pub_link/Collateral/MC74AC74-D.PDF
footprint ONSC-SOIC-14-751A-03_H_V (SOIC, 14-Leads, Body 8.75x4mm, Pitch 1.27mm)
pins on every part: 4 VCC (power), 11 VEE/GND (power)
part A pins: 1 OUT1 (out), 2 IN1- (in), 3 IN1+ (in)
part B pins: 5 IN2+ (in), 6 IN2- (in), 7 OUT2 (out)
part C pins: 8 OUT3 (out), 9 IN3- (in), 10 IN3+ (in)
part D pins: 12 IN4+ (in), 13 IN4- (in), 14 OUT4 (out)

## MC3303DR2
designator U?
Single Supply Quad Operational Amplifier, 3 to 36 V, -40 to 85 degC, 14-Pin SOIC, Tape and Reel; Manufacturer: On Semiconductor; PartNumber: MC3303DR2; GBW Typ (MHz): 1; SR Typ (V/uS): 0.6; VCC Max (V): 36; VCC Min (V): 3; DatasheetVersion: Rev. 11; PackageVersion: Rev. H; PackageReference: SOIC-14-751A-03_H; PackageDescription: 14-Pin Small Outline Integrated Circuit, Body 8.65 x 3.9 mm, Pitch 1.27 mm; Packing: Tape and Reel; RoHS: FALSE; Mounting Technology: Surface Mount; ComponentLink1Description: Manufacturer URL; ComponentLink1URL: http://www.onsemi.com/; ComponentLink2Description: Datasheet; ComponentLink2URL: http://www.onsemi.cn/pub_link/Collateral/MC3403-D.PDF; ComponentLink3Description: Package Specification; ComponentLink3URL: http://www.onsemi.com/pub_link/Collateral/MC74AC74-D.PDF
footprint ONSC-SOIC-14-751A-03_H_V (SOIC, 14-Leads, Body 8.75x4mm, Pitch 1.27mm)
pins on every part: 4 VCC (power), 11 VEE/GND (power)
part A pins: 1 OUT1 (out), 2 IN1- (in), 3 IN1+ (in)
part B pins: 5 IN2+ (in), 6 IN2- (in), 7 OUT2 (out)
part C pins: 8 OUT3 (out), 9 IN3- (in), 10 IN3+ (in)
part D pins: 12 IN4+ (in), 13 IN4- (in), 14 OUT4 (out)

## MC3303DR2G
designator U?
Single Supply Quad Operational Amplifier, 3 to 36 V, -40 to 85 degC, 14-Pin SOIC, Pb-Free, Tape and Reel; Manufacturer: On Semiconductor; PartNumber: MC3303DR2G; GBW Typ (MHz): 1; SR Typ (V/uS): 0.6; VCC Max (V): 36; VCC Min (V): 3; DatasheetVersion: Rev. 11; PackageVersion: Rev. H; PackageReference: SOIC-14-751A-03_H; PackageDescription: 14-Pin Small Outline Integrated Circuit, Body 8.65 x 3.9 mm, Pitch 1.27 mm; Supplier 1: Digi-Key; Supplier Part Number 1: MC3303DR2GOSTR-ND; Supplier 2: Digi-Key; Supplier Part Number 2: MC3303DR2GOSCT-ND; Supplier 3: Digi-Key; Supplier Part Number 3: MC3303DR2GOSDKR-ND; Supplier 4: Mouser; Supplier Part Number 4: 863-MC3303DR2G; Packing: Tape and Reel; RoHS: TRUE; Mounting Technology: Surface Mount; ComponentLink1Description: Manufacturer URL; ComponentLink1URL: http://www.onsemi.com/; ComponentLink2Description: Datasheet; ComponentLink2URL: http://www.onsemi.cn/pub_link/Collateral/MC3403-D.PDF; ComponentLink3Description: Package Specification; ComponentLink3URL: http://www.onsemi.com/pub_link/Collateral/MC74AC74-D.PDF
footprint ONSC-SOIC-14-751A-03_H_V (SOIC, 14-Leads, Body 8.75x4mm, Pitch 1.27mm)
pins on every part: 4 VCC (power), 11 VEE/GND (power)
part A pins: 1 OUT1 (out), 2 IN1- (in), 3 IN1+ (in)
part B pins: 5 IN2+ (in), 6 IN2- (in), 7 OUT2 (out)
part C pins: 8 OUT3 (out), 9 IN3- (in), 10 IN3+ (in)
part D pins: 12 IN4+ (in), 13 IN4- (in), 14 OUT4 (out)

## MC3303P
designator U?
Single Supply Quad Operational Amplifier, 3 to 36 V, -40 to 85 degC, 14-Pin PDIP, Tube; Manufacturer: On Semiconductor; PartNumber: MC3303P; GBW Typ (MHz): 1; SR Typ (V/uS): 0.6; VCC Max (V): 36; VCC Min (V): 3; DatasheetVersion: Rev. 11; PackageVersion: Rev. P, 10/2006; PackageReference: PDIP-14-646-06_P; PackageDescription: 14-Pin Plastic Dual-In Line Package, Body 18.86 x 6.35 mm, Pitch 2.54 mm; Supplier 1: Mouser; Supplier Part Number 1: 863-MC3303P; Packing: Tube; RoHS: FALSE; Mounting Technology: Through Hole; ComponentLink1Description: Manufacturer URL; ComponentLink1URL: http://www.onsemi.com/; ComponentLink2Description: Datasheet; ComponentLink2URL: http://www.onsemi.cn/pub_link/Collateral/MC3403-D.PDF; ComponentLink3Description: Package Specification; ComponentLink3URL: http://www.onsemi.com/pub_link/Collateral/MC14066B-D.PDF
footprint ONSC-PDIP-14-646-06_P (DIP, 14-Leads, Body 19.55x6.6mm, Pitch 2.54mm)
pins on every part: 4 VCC (power), 11 VEE/GND (power)
part A pins: 1 OUT1 (out), 2 IN1- (in), 3 IN1+ (in)
part B pins: 5 IN2+ (in), 6 IN2- (in), 7 OUT2 (out)
part C pins: 8 OUT3 (out), 9 IN3- (in), 10 IN3+ (in)
part D pins: 12 IN4+ (in), 13 IN4- (in), 14 OUT4 (out)

## MC3303PG
designator U?
Single Supply Quad Operational Amplifier, 3 to 36 V, -40 to 85 degC, 14-Pin PDIP, Pb-Free, Tube; Manufacturer: On Semiconductor; PartNumber: MC3303PG; GBW Typ (MHz): 1; SR Typ (V/uS): 0.6; VCC Max (V): 36; VCC Min (V): 3; DatasheetVersion: Rev. 11; PackageVersion: Rev. P, 10/2006; PackageReference: PDIP-14-646-06_P; PackageDescription: 14-Pin Plastic Dual-In Line Package, Body 18.86 x 6.35 mm, Pitch 2.54 mm; Supplier 1: Digi-Key; Supplier Part Number 1: MC3303PGOS-ND; Supplier 2: Farnell; Supplier Part Number 2: 1426358; Supplier 3: Newark; Supplier Part Number 3: 26K3986; Supplier 4: Mouser; Supplier Part Number 4: 863-MC3303PG; Packing: Tube; RoHS: TRUE; Mounting Technology: Through Hole; ComponentLink1Description: Manufacturer URL; ComponentLink1URL: http://www.onsemi.com/; ComponentLink2Description: Datasheet; ComponentLink2URL: http://www.onsemi.cn/pub_link/Collateral/MC3403-D.PDF; ComponentLink3Description: Package Specification; ComponentLink3URL: http://www.onsemi.com/pub_link/Collateral/MC14066B-D.PDF
footprint ONSC-PDIP-14-646-06_P (DIP, 14-Leads, Body 19.55x6.6mm, Pitch 2.54mm)
pins on every part: 4 VCC (power), 11 VEE/GND (power)
part A pins: 1 OUT1 (out), 2 IN1- (in), 3 IN1+ (in)
part B pins: 5 IN2+ (in), 6 IN2- (in), 7 OUT2 (out)
part C pins: 8 OUT3 (out), 9 IN3- (in), 10 IN3+ (in)
part D pins: 12 IN4+ (in), 13 IN4- (in), 14 OUT4 (out)

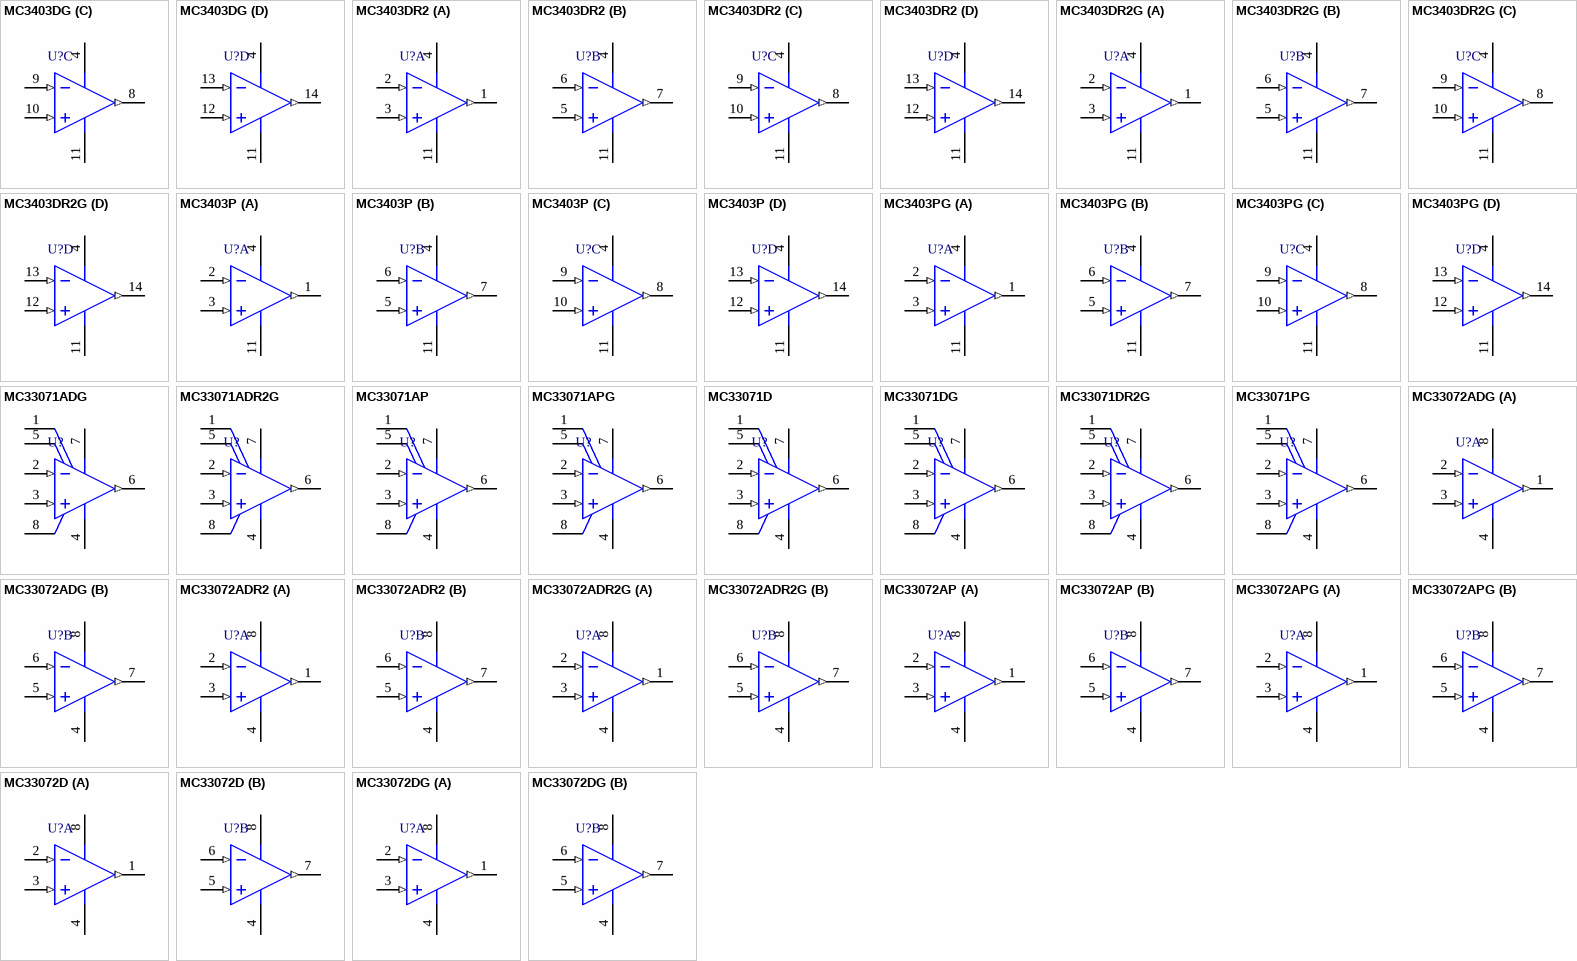
[diagram p7: symbols MC3403DG to MC33072DG]

## MC3403DG
designator U?
Single Supply Quad Operational Amplifier, 3 to 36 V, 0 to 70 degC, 14-Pin SOIC, Pb-Free, Tube; Manufacturer: On Semiconductor; PartNumber: MC3403DG; GBW Typ (MHz): 1; SR Typ (V/uS): 0.6; VCC Max (V): 36; VCC Min (V): 3; DatasheetVersion: Rev. 11; PackageVersion: Rev. H; PackageReference: SOIC-14-751A-03_H; PackageDescription: 14-Pin Small Outline Integrated Circuit, Body 8.65 x 3.9 mm, Pitch 1.27 mm; Supplier 1: Digi-Key; Supplier Part Number 1: MC3403DGOS-ND; Supplier 2: Farnell; Supplier Part Number 2: 9664408; Supplier 3: Newark; Supplier Part Number 3: 92K6962; Supplier 4: Newark; Supplier Part Number 4: 45J1205; Supplier 5: Mouser; Supplier Part Number 5: 863-MC3403DG; Packing: Tube; RoHS: TRUE; Mounting Technology: Surface Mount; ComponentLink1Description: Manufacturer URL; ComponentLink1URL: http://www.onsemi.com/; ComponentLink2Description: Datasheet; ComponentLink2URL: http://www.onsemi.cn/pub_link/Collateral/MC3403-D.PDF; ComponentLink3Description: Package Specification; ComponentLink3URL: http://www.onsemi.com/pub_link/Collateral/MC74AC74-D.PDF
footprint ONSC-SOIC-14-751A-03_H_V (SOIC, 14-Leads, Body 8.75x4mm, Pitch 1.27mm)
pins on every part: 4 VCC (power), 11 VEE/GND (power)
part A pins: 1 OUT1 (out), 2 IN1- (in), 3 IN1+ (in)
part B pins: 5 IN2+ (in), 6 IN2- (in), 7 OUT2 (out)
part C pins: 8 OUT3 (out), 9 IN3- (in), 10 IN3+ (in)
part D pins: 12 IN4+ (in), 13 IN4- (in), 14 OUT4 (out)

## MC3403DR2
designator U?
Single Supply Quad Operational Amplifier, 3 to 36 V, 0 to 70 degC, 14-Pin SOIC, Tape and Reel; Manufacturer: On Semiconductor; PartNumber: MC3403DR2; GBW Typ (MHz): 1; SR Typ (V/uS): 0.6; VCC Max (V): 36; VCC Min (V): 3; DatasheetVersion: Rev. 11; PackageVersion: Rev. H; PackageReference: SOIC-14-751A-03_H; PackageDescription: 14-Pin Small Outline Integrated Circuit, Body 8.65 x 3.9 mm, Pitch 1.27 mm; Supplier 1: Digi-Key; Supplier Part Number 1: MC3403DR2OSCT-ND; Supplier 2: Digi-Key; Supplier Part Number 2: MC3403DR2OSDKR-ND; Packing: Tape and Reel; RoHS: FALSE; Mounting Technology: Surface Mount; ComponentLink1Description: Manufacturer URL; ComponentLink1URL: http://www.onsemi.com/; ComponentLink2Description: Datasheet; ComponentLink2URL: http://www.onsemi.cn/pub_link/Collateral/MC3403-D.PDF; ComponentLink3Description: Package Specification; ComponentLink3URL: http://www.onsemi.com/pub_link/Collateral/MC74AC74-D.PDF
footprint ONSC-SOIC-14-751A-03_H_V (SOIC, 14-Leads, Body 8.75x4mm, Pitch 1.27mm)
pins on every part: 4 VCC (power), 11 VEE/GND (power)
part A pins: 1 OUT1 (out), 2 IN1- (in), 3 IN1+ (in)
part B pins: 5 IN2+ (in), 6 IN2- (in), 7 OUT2 (out)
part C pins: 8 OUT3 (out), 9 IN3- (in), 10 IN3+ (in)
part D pins: 12 IN4+ (in), 13 IN4- (in), 14 OUT4 (out)